# EAGLE library part M95256-WMN6TP (library M95256-WMN6TP)
EEPROM
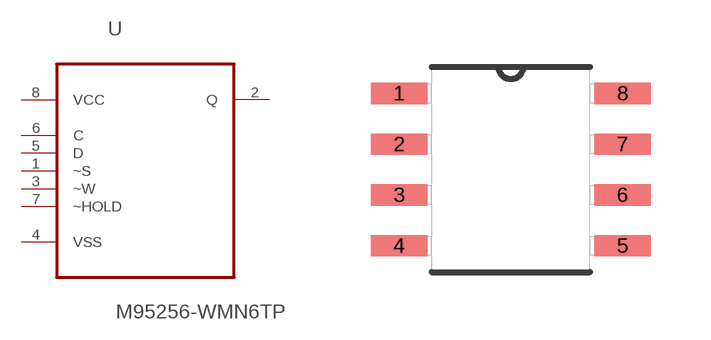
[diagram p0: symbol with the pads of SOIC127P600X175-8N; footprint SOIC127P600X175-8N]

Designator prefix U

## M95256-WMN6TP (Availability: Unavailable; Description: EEPROM Serial-SPI 256K-bit 32K x 8 3.3V/5V 8-Pin SO N T/R; MF: STMicroelectronics; MP: M95256-WMN6TP; Package: SO-8 STMicroelectronics; Price: None)  [SOIC127P600X175-8N]
1  ~S  in
2  Q  out
3  ~W  in
4  VSS  pwr
5  D  in
6  C  in
7  ~HOLD  in
8  VCC  pwr

## Footprint SOIC127P600X175-8N (pad centres in mm)
smd 1.422 x 0.533: 1 -2.794,1.905; 2 -2.794,0.635; 3 -2.794,-0.635; 4 -2.794,-1.905; 5 2.794,-1.905; 6 2.794,-0.635; 7 2.794,0.635; 8 2.794,1.905